# Altium integrated library Analog_Devices_Power_Management_Linear_Regulators.IntLib: 441 symbols (part 18 of 23)
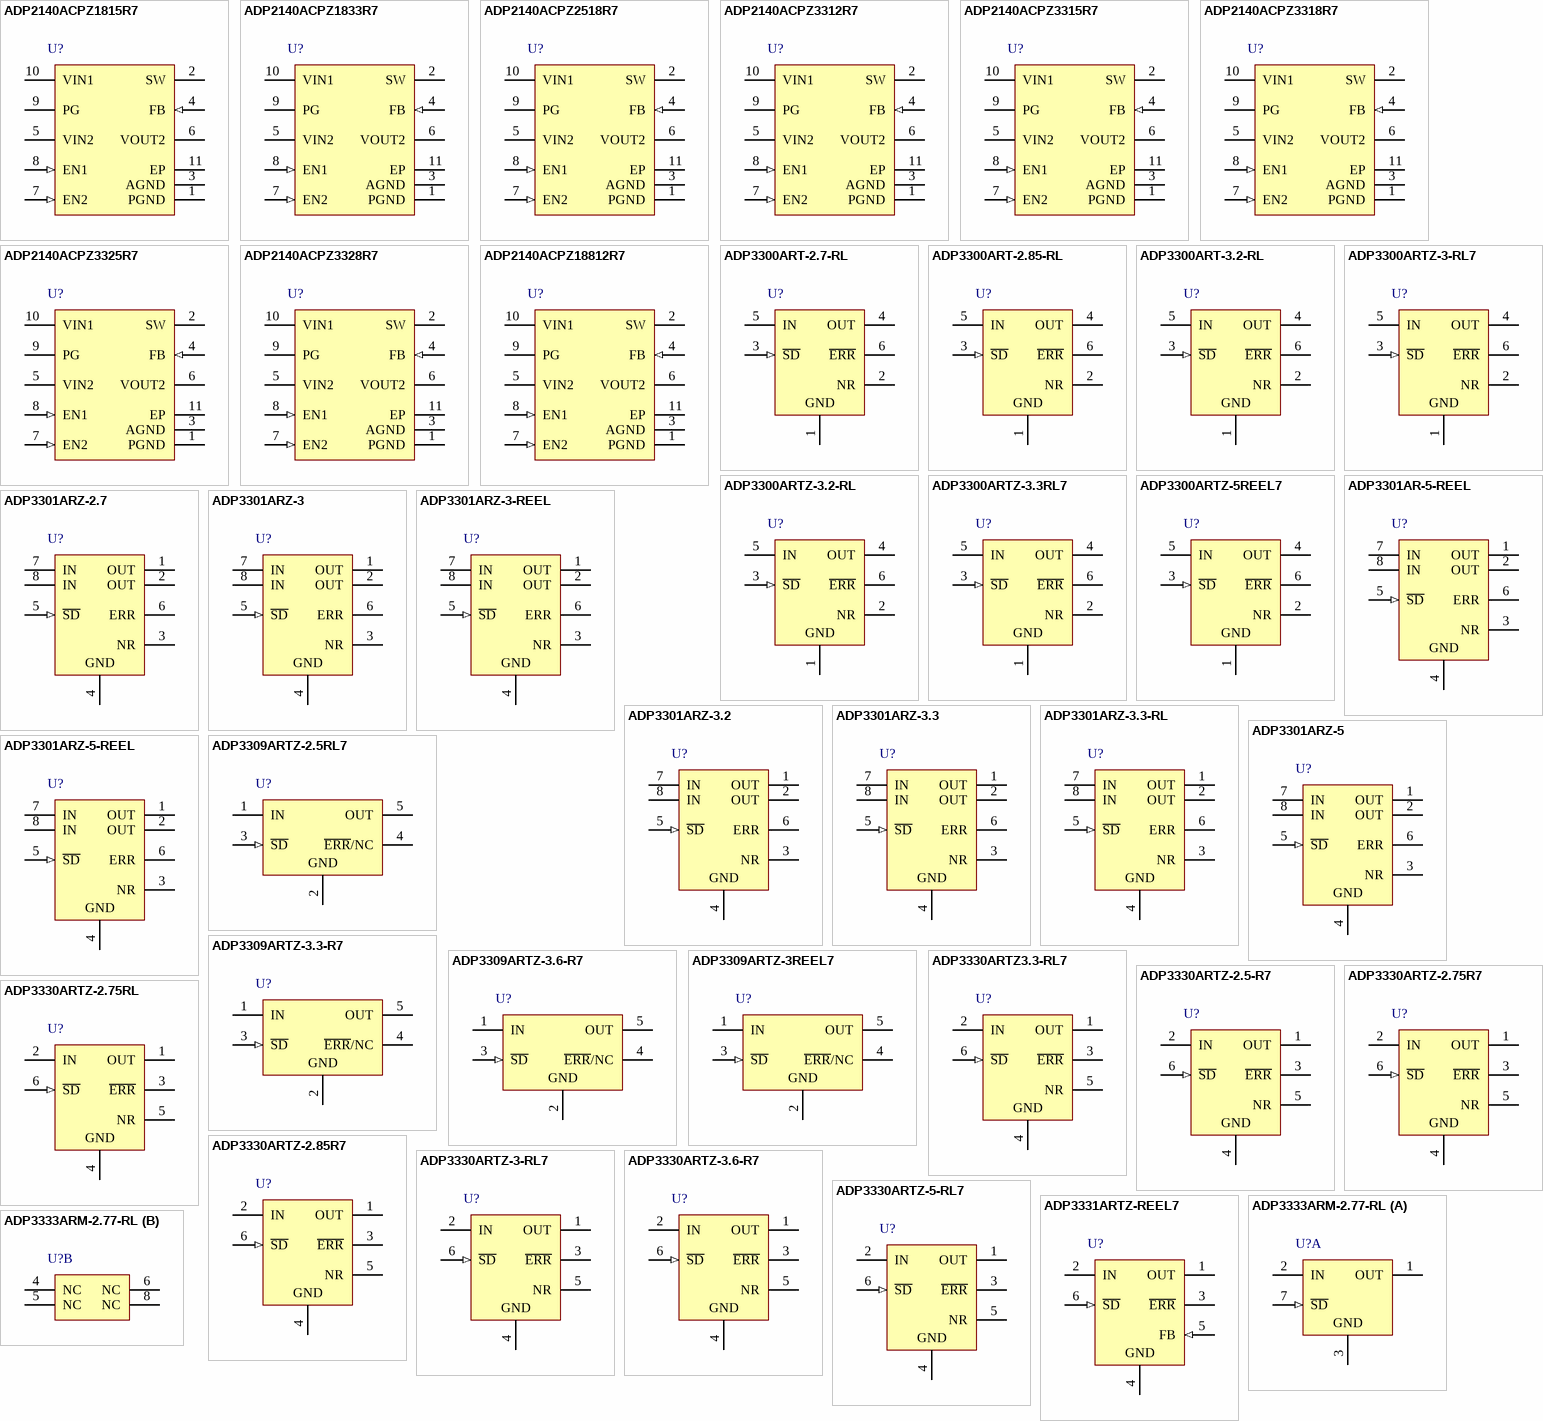
[diagram p28: symbols ADP2140ACPZ1815R7 to ADP3333ARM-2.77-RL]

## ADP3301ARZ-5-REEL
designator U?
High Accuracy anyCAP(TM) 100 mA Low Dropout Linear Regulator, 3 to 12 V Vin, 5 V Vout, Industrial, 8-pin SOIC (R-8), Reel; Manufacturer: Analog Devices; PartNumber: ADP3301ARZ-5-REEL; Iout max: 100mA; Preset Vout Values (V): 5; Supply Current IGND @ Small Load: 180uA; Vin (max) (V): 12; Vin (min) (V): 3; DatasheetVersion: Rev. 0; PackageVersion: 060506-A, 06/2006; PackageReference: R-8; PackageDescription: 8-Pin Standard Small Outline Package, Body 4.9 x 3.9 mm, Pitch 1.27 mm; Supplier 1: Digi-Key; Supplier Part Number 1: ADP3301ARZ-5-REELTR-ND; Supplier 2: Digi-Key; Supplier Part Number 2: ADP3301ARZ-5-REELCT-ND; Supplier 3: Digi-Key; Supplier Part Number 3: ADP3301ARZ-5-REELDKR-ND; Supplier 4: Mouser; Supplier Part Number 4: 584-ADP3301ARZ-5-R; Packing: Reel; Mounting Technology: Surface Mount; Code_JEDEC: MS-012-AA; ComponentLink1Description: Manufacturer URL; ComponentLink1URL: http://www.analog.com/en/index.html; ComponentLink2Description: Datasheet; ComponentLink2URL: http://www.analog.com/static/imported-files/data_sheets/ADP3301.pdf; ComponentLink3Description: Package Specification; ComponentLink3URL: http://www.analog.com/static/imported-files/packages/PKG_PDF/SOIC_Narrow%20(R)/R_8.pdf; ComponentLink4Description: URL Link1; ComponentLink4URL: Product URL:http://www.analog.com/en/ADP3301/productSearch.html
footprint ADI-R-8_N (SOIC, 8-Leads, Body 4.9x3.9mm, Pitch 1.27mm, IPC Medium Density)
footprint ADI-R-8_L (SOIC, 8-Leads, Body 4.9x3.9mm, Pitch 1.27mm, IPC High Density)
footprint ADI-R-8_M (SOIC, 8-Leads, Body 4.9x3.9mm, Pitch 1.27mm, IPC Low Density)
pins: 1 OUT (power) "Output of the Regulator, fixed 2.7, 3.0, 3.2, 3.3 or 5 volts output voltage. Bypass to ground with a 0.47 uF or larger capacitor.", 2 OUT (power) "Output of the Regulator, fixed 2.7, 3.0, 3.2, 3.3 or 5 volts output voltage. Bypass to ground with a 0.47 uF or larger capacitor.", 3 NR "Noise Reduction Pin. Used for further reduction of the output noise. (See text for details.) No connection if not used.", 4 GND (power) "Ground Pin.", 5 ~{SD} (in) "Active Low Shutdown Pin. Connect to ground to disable the regulator output. When shutdown is not used, this pin should be connected to the input pin.", 6 ERR (oc) "Open Collector Output which goes low to indicate that the output is about to go out of regulation.", 7 IN (power) "Regulator Input.", 8 IN (power) "Regulator Input."

## ADP3309ARTZ-2.5RL7
designator U?
anyCAP(R) 100 mA Low Dropout Linear Regulator, 2.8 to 12 V Vin, 2.5 V Vout, Industrial, 5-pin SOT23 (RJ-5), Reel; Manufacturer: Analog Devices; PartNumber: ADP3309ARTZ-2.5RL7; Iout max: 100mA; Preset Vout Values (V): 2.5; Supply Current IGND @ Small Load: 190uA; Vin (max) (V): 12; Vin (min) (V): 2.8; DatasheetVersion: Rev. C; PackageVersion: 121608-A , 12/2008; PackageReference: RJ-5; PackageDescription: 5-Pin Small Outline Transistor Package, Body 2.9 x 1.6 mm, Pitch 0.95 mm; Supplier 1: Mouser; Supplier Part Number 1: 584-ADP3309ARTZ2.5R7; Packing: Reel; Mounting Technology: Surface Mount; Code_JEDEC: MO-178-AA; ComponentLink1Description: Manufacturer URL; ComponentLink1URL: http://www.analog.com/en/index.html; ComponentLink2Description: Datasheet; ComponentLink2URL: http://www.analog.com/static/imported-files/data_sheets/ADP3309.pdf; ComponentLink3Description: Package Specification; ComponentLink3URL: http://www.analog.com/static/imported-files/packages/PKG_PDF/SOT-23(RJ)/RJ_5.pdf; ComponentLink4Description: URL Link1; ComponentLink4URL: Product URL:http://www.analog.com/en/ADP3309/productSearch.html
footprint ADI-RJ-5_N (SOT-23, 5-Leads, Body 2.9x1.6mm, Pitch 0.95mm, IPC Medium Density)
footprint ADI-RJ-5_L (SOT-23, 5-Leads, Body 2.9x1.6mm, Pitch 0.95mm, IPC High Density)
footprint ADI-RJ-5_M (SOT-23, 5-Leads, Body 2.9x1.6mm, Pitch 0.95mm, IPC Low Density)
pins: 1 IN (power) "Regulator Input.", 2 GND (power) "Ground Pin.", 3 ~{SD} (in) "Active Low Shutdown Pin. Connect to ground to disable the regulator output. When shutdown is not used, this pin should be connected to the input pin.", 4 ~{ERR}/NC "Open Collector. Output that goes low to indicate the output is about to go out of regulation. This pin can be left open. (NC = No Connect).", 5 OUT (power) "Output of the Regulator. Fixed 2.5 V, 2.7 V, 2.85 V, 2.9 V, 3.0 V, 3.3 V, or 3.6 V output voltage. Bypass to ground with a 0.47 uF or larger capacitor."

## ADP3309ARTZ-3.3-R7
designator U?
anyCAP(R) 100 mA Low Dropout Linear Regulator, 2.8 to 12 V Vin, 3.3 V Vout, Industrial, 5-pin SOT23 (RJ-5), Reel; Manufacturer: Analog Devices; PartNumber: ADP3309ARTZ-3.3-R7; Iout max: 100mA; Preset Vout Values (V): 3.3; Supply Current IGND @ Small Load: 190uA; Vin (max) (V): 12; Vin (min) (V): 2.8; DatasheetVersion: Rev. C; PackageVersion: 121608-A , 12/2008; PackageReference: RJ-5; PackageDescription: 5-Pin Small Outline Transistor Package, Body 2.9 x 1.6 mm, Pitch 0.95 mm; Supplier 1: Digi-Key; Supplier Part Number 1: ADP3309ARTZ-3.3-R7TR-ND; Supplier 2: Digi-Key; Supplier Part Number 2: ADP3309ARTZ-3.3-R7CT-ND; Supplier 3: Digi-Key; Supplier Part Number 3: ADP3309ARTZ-3.3-R7DKR-ND; Supplier 4: Farnell; Supplier Part Number 4: 2376922; Supplier 5: Newark; Supplier Part Number 5: 12M8147; Supplier 6: Newark; Supplier Part Number 6: 67W2709; Supplier 7: Mouser; Supplier Part Number 7: 584-ADP3309ARTZ3.3R7; Packing: Reel; Mounting Technology: Surface Mount; Code_JEDEC: MO-178-AA; ComponentLink1Description: Manufacturer URL; ComponentLink1URL: http://www.analog.com/en/index.html; ComponentLink2Description: Datasheet; ComponentLink2URL: http://www.analog.com/static/imported-files/data_sheets/ADP3309.pdf; ComponentLink3Description: Package Specification; ComponentLink3URL: http://www.analog.com/static/imported-files/packages/PKG_PDF/SOT-23(RJ)/RJ_5.pdf; ComponentLink4Description: URL Link1; ComponentLink4URL: Product URL:http://www.analog.com/en/ADP3309/productSearch.html
footprint ADI-RJ-5_N (SOT-23, 5-Leads, Body 2.9x1.6mm, Pitch 0.95mm, IPC Medium Density)
footprint ADI-RJ-5_L (SOT-23, 5-Leads, Body 2.9x1.6mm, Pitch 0.95mm, IPC High Density)
footprint ADI-RJ-5_M (SOT-23, 5-Leads, Body 2.9x1.6mm, Pitch 0.95mm, IPC Low Density)
pins: 1 IN (power) "Regulator Input.", 2 GND (power) "Ground Pin.", 3 ~{SD} (in) "Active Low Shutdown Pin. Connect to ground to disable the regulator output. When shutdown is not used, this pin should be connected to the input pin.", 4 ~{ERR}/NC "Open Collector. Output that goes low to indicate the output is about to go out of regulation. This pin can be left open. (NC = No Connect).", 5 OUT (power) "Output of the Regulator. Fixed 2.5 V, 2.7 V, 2.85 V, 2.9 V, 3.0 V, 3.3 V, or 3.6 V output voltage. Bypass to ground with a 0.47 uF or larger capacitor."

## ADP3309ARTZ-3.6-R7
designator U?
anyCAP(R) 100 mA Low Dropout Linear Regulator, 2.8 to 12 V Vin, 3.6 V Vout, Industrial, 5-pin SOT23 (RJ-5), Reel; Manufacturer: Analog Devices; PartNumber: ADP3309ARTZ-3.6-R7; Iout max: 100mA; Preset Vout Values (V): 3.6; Supply Current IGND @ Small Load: 190uA; Vin (max) (V): 12; Vin (min) (V): 2.8; DatasheetVersion: Rev. C; PackageVersion: 121608-A , 12/2008; PackageReference: RJ-5; PackageDescription: 5-Pin Small Outline Transistor Package, Body 2.9 x 1.6 mm, Pitch 0.95 mm; Supplier 1: Mouser; Supplier Part Number 1: 584-ADP3309ARTZ3.6R7; Packing: Reel; Mounting Technology: Surface Mount; Code_JEDEC: MO-178-AA; ComponentLink1Description: Manufacturer URL; ComponentLink1URL: http://www.analog.com/en/index.html; ComponentLink2Description: Datasheet; ComponentLink2URL: http://www.analog.com/static/imported-files/data_sheets/ADP3309.pdf; ComponentLink3Description: Package Specification; ComponentLink3URL: http://www.analog.com/static/imported-files/packages/PKG_PDF/SOT-23(RJ)/RJ_5.pdf; ComponentLink4Description: URL Link1; ComponentLink4URL: Product URL:http://www.analog.com/en/ADP3309/productSearch.html
footprint ADI-RJ-5_N (SOT-23, 5-Leads, Body 2.9x1.6mm, Pitch 0.95mm, IPC Medium Density)
footprint ADI-RJ-5_L (SOT-23, 5-Leads, Body 2.9x1.6mm, Pitch 0.95mm, IPC High Density)
footprint ADI-RJ-5_M (SOT-23, 5-Leads, Body 2.9x1.6mm, Pitch 0.95mm, IPC Low Density)
pins: 1 IN (power) "Regulator Input.", 2 GND (power) "Ground Pin.", 3 ~{SD} (in) "Active Low Shutdown Pin. Connect to ground to disable the regulator output. When shutdown is not used, this pin should be connected to the input pin.", 4 ~{ERR}/NC "Open Collector. Output that goes low to indicate the output is about to go out of regulation. This pin can be left open. (NC = No Connect).", 5 OUT (power) "Output of the Regulator. Fixed 2.5 V, 2.7 V, 2.85 V, 2.9 V, 3.0 V, 3.3 V, or 3.6 V output voltage. Bypass to ground with a 0.47 uF or larger capacitor."

## ADP3309ARTZ-3REEL7
designator U?
anyCAP(R) 100 mA Low Dropout Linear Regulator, 2.8 to 12 V Vin, 3 V Vout, Industrial, 5-pin SOT23 (RJ-5), Reel; Manufacturer: Analog Devices; PartNumber: ADP3309ARTZ-3REEL7; Iout max: 100mA; Preset Vout Values (V): 3; Supply Current IGND @ Small Load: 190uA; Vin (max) (V): 12; Vin (min) (V): 2.8; DatasheetVersion: Rev. C; PackageVersion: 121608-A , 12/2008; PackageReference: RJ-5; PackageDescription: 5-Pin Small Outline Transistor Package, Body 2.9 x 1.6 mm, Pitch 0.95 mm; Supplier 1: Mouser; Supplier Part Number 1: 584-ADP3309ARTZ3R7; Packing: Reel; Mounting Technology: Surface Mount; Code_JEDEC: MO-178-AA; ComponentLink1Description: Manufacturer URL; ComponentLink1URL: http://www.analog.com/en/index.html; ComponentLink2Description: Datasheet; ComponentLink2URL: http://www.analog.com/static/imported-files/data_sheets/ADP3309.pdf; ComponentLink3Description: Package Specification; ComponentLink3URL: http://www.analog.com/static/imported-files/packages/PKG_PDF/SOT-23(RJ)/RJ_5.pdf; ComponentLink4Description: URL Link1; ComponentLink4URL: Product URL:http://www.analog.com/en/ADP3309/productSearch.html
footprint ADI-RJ-5_N (SOT-23, 5-Leads, Body 2.9x1.6mm, Pitch 0.95mm, IPC Medium Density)
footprint ADI-RJ-5_L (SOT-23, 5-Leads, Body 2.9x1.6mm, Pitch 0.95mm, IPC High Density)
footprint ADI-RJ-5_M (SOT-23, 5-Leads, Body 2.9x1.6mm, Pitch 0.95mm, IPC Low Density)
pins: 1 IN (power) "Regulator Input.", 2 GND (power) "Ground Pin.", 3 ~{SD} (in) "Active Low Shutdown Pin. Connect to ground to disable the regulator output. When shutdown is not used, this pin should be connected to the input pin.", 4 ~{ERR}/NC "Open Collector. Output that goes low to indicate the output is about to go out of regulation. This pin can be left open. (NC = No Connect).", 5 OUT (power) "Output of the Regulator. Fixed 2.5 V, 2.7 V, 2.85 V, 2.9 V, 3.0 V, 3.3 V, or 3.6 V output voltage. Bypass to ground with a 0.47 uF or larger capacitor."

## ADP3330ARTZ3.3-RL7
designator U?
High Accuracy Ultralow IQ, 200 mA, anyCAP(TM) Low Dropout Regulator, 2.9 to 12 V Vin, 3.3 V Vout, Industrial, 6-pin SOT23 (RT-6), Reel; Manufacturer: Analog Devices; PartNumber: ADP3330ARTZ3.3-RL7; Iout max: 200mA; Preset Vout Values (V): 3.3; Supply Current IGND @ Small Load: 34uA; Vin (max) (V): 12; Vin (min) (V): 2.9; DatasheetVersion: Rev. A; PackageVersion: REV. A, 11/2006; PackageReference: RT-6; PackageDescription: 6-Pin Plastic Surface Mount SOT-23 Package, Body 2.9 x 1.65 mm, Pitch 0.95 mm; Supplier 1: Digi-Key; Supplier Part Number 1: ADP3330ARTZ3.3-RL7TR-ND; Supplier 2: Digi-Key; Supplier Part Number 2: ADP3330ARTZ3.3-RL7CT-ND; Supplier 3: Digi-Key; Supplier Part Number 3: ADP3330ARTZ3.3-RL7DKR-ND; Supplier 4: Farnell; Supplier Part Number 4: 2376923; Supplier 5: Newark; Supplier Part Number 5: 12M8152; Supplier 6: Newark; Supplier Part Number 6: 28X3290; Supplier 7: Mouser; Supplier Part Number 7: 584-ADP3330ARTZ3.3R7; Packing: Reel; Mounting Technology: Surface Mount; ComponentLink1Description: Manufacturer URL; ComponentLink1URL: http://www.analog.com/en/index.html; ComponentLink2Description: Datasheet; ComponentLink2URL: http://www.analog.com/static/imported-files/data_sheets/ADP3330.pdf; ComponentLink3Description: Package Specification; ComponentLink3URL: http://www.analog.com/static/imported-files/data_sheets/ADG465.pdf; ComponentLink4Description: URL Link1; ComponentLink4URL: Product URL:http://www.analog.com/en/ADP3330/productSearch.html
footprint ADI-RT-6_N (SOT23, 6-Leads, Body 2.9x1.65mm, Pitch 0.95mm, IPC Medium Density)
footprint ADI-RT-6_L (SOT23, 6-Leads, Body 2.9x1.65mm, Pitch 0.95mm, IPC High Density)
footprint ADI-RT-6_M (SOT23, 6-Leads, Body 2.9x1.65mm, Pitch 0.95mm, IPC Low Density)
pins: 1 OUT (power) "Output of the Regulator. Bypass to ground with a 0.47 uF or larger capacitor.", 2 IN (power) "Regulator Input.", 3 ~{ERR} (oc) "Open Collector Output that goes low to indicate that the output is about to go out of regulation.", 4 GND (power) "Ground Pin.", 5 NR "Noise Reduction Pin. Used for further reduction of output noise (see text for detail). No connection if not used.", 6 ~{SD} (in) "Active Low Shutdown Pin. Connect to ground to disable the regulator output. When shutdown is not used, this pin should be connected to the input pin."

## ADP3330ARTZ-2.5-R7
designator U?
High Accuracy Ultralow IQ, 200 mA, anyCAP(TM) Low Dropout Regulator, 2.9 to 12 V Vin, 2.5 V Vout, Industrial, 6-pin SOT23 (RT-6), Reel; Manufacturer: Analog Devices; PartNumber: ADP3330ARTZ-2.5-R7; Iout max: 200mA; Preset Vout Values (V): 2.5; Supply Current IGND @ Small Load: 34uA; Vin (max) (V): 12; Vin (min) (V): 2.9; DatasheetVersion: Rev. A; PackageVersion: REV. A, 11/2006; PackageReference: RT-6; PackageDescription: 6-Pin Plastic Surface Mount SOT-23 Package, Body 2.9 x 1.65 mm, Pitch 0.95 mm; Supplier 1: Digi-Key; Supplier Part Number 1: ADP3330ARTZ-2.5-R7TR-ND; Supplier 2: Digi-Key; Supplier Part Number 2: ADP3330ARTZ-2.5-R7CT-ND; Supplier 3: Digi-Key; Supplier Part Number 3: ADP3330ARTZ-2.5-R7DKR-ND; Supplier 4: Farnell; Supplier Part Number 4: 2074870RL; Supplier 5: Farnell; Supplier Part Number 5: 2074870; Supplier 6: Newark; Supplier Part Number 6: 67W2710; Supplier 7: Newark; Supplier Part Number 7: 12M8148; Supplier 8: Mouser; Supplier Part Number 8: 584-ADP3330ARTZ2.5R7; Packing: Reel; Mounting Technology: Surface Mount; ComponentLink1Description: Manufacturer URL; ComponentLink1URL: http://www.analog.com/en/index.html; ComponentLink2Description: Datasheet; ComponentLink2URL: http://www.analog.com/static/imported-files/data_sheets/ADP3330.pdf; ComponentLink3Description: Package Specification; ComponentLink3URL: http://www.analog.com/static/imported-files/data_sheets/ADG465.pdf; ComponentLink4Description: URL Link1; ComponentLink4URL: Product URL:http://www.analog.com/en/ADP3330/productSearch.html
footprint ADI-RT-6_N (SOT23, 6-Leads, Body 2.9x1.65mm, Pitch 0.95mm, IPC Medium Density)
footprint ADI-RT-6_L (SOT23, 6-Leads, Body 2.9x1.65mm, Pitch 0.95mm, IPC High Density)
footprint ADI-RT-6_M (SOT23, 6-Leads, Body 2.9x1.65mm, Pitch 0.95mm, IPC Low Density)
pins: 1 OUT (power) "Output of the Regulator. Bypass to ground with a 0.47 uF or larger capacitor.", 2 IN (power) "Regulator Input.", 3 ~{ERR} (oc) "Open Collector Output that goes low to indicate that the output is about to go out of regulation.", 4 GND (power) "Ground Pin.", 5 NR "Noise Reduction Pin. Used for further reduction of output noise (see text for detail). No connection if not used.", 6 ~{SD} (in) "Active Low Shutdown Pin. Connect to ground to disable the regulator output. When shutdown is not used, this pin should be connected to the input pin."

## ADP3330ARTZ-2.75R7
designator U?
High Accuracy Ultralow IQ, 200 mA, anyCAP(TM) Low Dropout Regulator, 2.9 to 12 V Vin, 2.75 V Vout, Industrial, 6-pin SOT23 (RT-6), Reel; Manufacturer: Analog Devices; PartNumber: ADP3330ARTZ-2.75R7; Iout max: 200mA; Preset Vout Values (V): 2.75; Supply Current IGND @ Small Load: 34uA; Vin (max) (V): 12; Vin (min) (V): 2.9; DatasheetVersion: Rev. A; PackageVersion: REV. A, 11/2006; PackageReference: RT-6; PackageDescription: 6-Pin Plastic Surface Mount SOT-23 Package, Body 2.9 x 1.65 mm, Pitch 0.95 mm; Supplier 1: Digi-Key; Supplier Part Number 1: ADP3330ARTZ-2.75R7TR-ND; Supplier 2: Digi-Key; Supplier Part Number 2: ADP3330ARTZ-2.75R7CT-ND; Supplier 3: Digi-Key; Supplier Part Number 3: ADP3330ARTZ-2.75R7DKR-ND; Supplier 4: Mouser; Supplier Part Number 4: 584-AP3330ARTZ2.75R7; Packing: Reel; Mounting Technology: Surface Mount; ComponentLink1Description: Manufacturer URL; ComponentLink1URL: http://www.analog.com/en/index.html; ComponentLink2Description: Datasheet; ComponentLink2URL: http://www.analog.com/static/imported-files/data_sheets/ADP3330.pdf; ComponentLink3Description: Package Specification; ComponentLink3URL: http://www.analog.com/static/imported-files/data_sheets/ADG465.pdf; ComponentLink4Description: URL Link1; ComponentLink4URL: Product URL:http://www.analog.com/en/ADP3330/productSearch.html
footprint ADI-RT-6_N (SOT23, 6-Leads, Body 2.9x1.65mm, Pitch 0.95mm, IPC Medium Density)
footprint ADI-RT-6_L (SOT23, 6-Leads, Body 2.9x1.65mm, Pitch 0.95mm, IPC High Density)
footprint ADI-RT-6_M (SOT23, 6-Leads, Body 2.9x1.65mm, Pitch 0.95mm, IPC Low Density)
pins: 1 OUT (power) "Output of the Regulator. Bypass to ground with a 0.47 uF or larger capacitor.", 2 IN (power) "Regulator Input.", 3 ~{ERR} (oc) "Open Collector Output that goes low to indicate that the output is about to go out of regulation.", 4 GND (power) "Ground Pin.", 5 NR "Noise Reduction Pin. Used for further reduction of output noise (see text for detail). No connection if not used.", 6 ~{SD} (in) "Active Low Shutdown Pin. Connect to ground to disable the regulator output. When shutdown is not used, this pin should be connected to the input pin."

## ADP3330ARTZ-2.75RL
designator U?
High Accuracy Ultralow IQ, 200 mA, anyCAP(TM) Low Dropout Regulator, 2.9 to 12 V Vin, 2.75 V Vout, Industrial, 6-pin SOT23 (RT-6), Reel; Manufacturer: Analog Devices; PartNumber: ADP3330ARTZ-2.75RL; Iout max: 200mA; Preset Vout Values (V): 2.75; Supply Current IGND @ Small Load: 34uA; Vin (max) (V): 12; Vin (min) (V): 2.9; DatasheetVersion: Rev. A; PackageVersion: REV. A, 11/2006; PackageReference: RT-6; PackageDescription: 6-Pin Plastic Surface Mount SOT-23 Package, Body 2.9 x 1.65 mm, Pitch 0.95 mm; Supplier 1: Digi-Key; Supplier Part Number 1: ADP3330ARTZ-2.75RLTR-ND; Supplier 2: Digi-Key; Supplier Part Number 2: ADP3330ARTZ-2.75RLCT-ND; Supplier 3: Digi-Key; Supplier Part Number 3: ADP3330ARTZ-2.75RLDKR-ND; Supplier 4: Mouser; Supplier Part Number 4: 584-ADP3330ARTZ2.75R; Packing: Reel; Mounting Technology: Surface Mount; ComponentLink1Description: Manufacturer URL; ComponentLink1URL: http://www.analog.com/en/index.html; ComponentLink2Description: Datasheet; ComponentLink2URL: http://www.analog.com/static/imported-files/data_sheets/ADP3330.pdf; ComponentLink3Description: Package Specification; ComponentLink3URL: http://www.analog.com/static/imported-files/data_sheets/ADG465.pdf; ComponentLink4Description: URL Link1; ComponentLink4URL: Product URL:http://www.analog.com/en/ADP3330/productSearch.html
footprint ADI-RT-6_N (SOT23, 6-Leads, Body 2.9x1.65mm, Pitch 0.95mm, IPC Medium Density)
footprint ADI-RT-6_L (SOT23, 6-Leads, Body 2.9x1.65mm, Pitch 0.95mm, IPC High Density)
footprint ADI-RT-6_M (SOT23, 6-Leads, Body 2.9x1.65mm, Pitch 0.95mm, IPC Low Density)
pins: 1 OUT (power) "Output of the Regulator. Bypass to ground with a 0.47 uF or larger capacitor.", 2 IN (power) "Regulator Input.", 3 ~{ERR} (oc) "Open Collector Output that goes low to indicate that the output is about to go out of regulation.", 4 GND (power) "Ground Pin.", 5 NR "Noise Reduction Pin. Used for further reduction of output noise (see text for detail). No connection if not used.", 6 ~{SD} (in) "Active Low Shutdown Pin. Connect to ground to disable the regulator output. When shutdown is not used, this pin should be connected to the input pin."

## ADP3330ARTZ-2.85R7
designator U?
High Accuracy Ultralow IQ, 200 mA, anyCAP(TM) Low Dropout Regulator, 2.9 to 12 V Vin, 2.85 V Vout, Industrial, 6-pin SOT23 (RT-6), Reel; Manufacturer: Analog Devices; PartNumber: ADP3330ARTZ-2.85R7; Iout max: 200mA; Preset Vout Values (V): 2.85; Supply Current IGND @ Small Load: 34uA; Vin (max) (V): 12; Vin (min) (V): 2.9; DatasheetVersion: Rev. A; PackageVersion: REV. A, 11/2006; PackageReference: RT-6; PackageDescription: 6-Pin Plastic Surface Mount SOT-23 Package, Body 2.9 x 1.65 mm, Pitch 0.95 mm; Supplier 1: Digi-Key; Supplier Part Number 1: ADP3330ARTZ-2.85R7TR-ND; Supplier 2: Digi-Key; Supplier Part Number 2: ADP3330ARTZ-2.85R7CT-ND; Supplier 3: Digi-Key; Supplier Part Number 3: ADP3330ARTZ-2.85R7DKR-ND; Supplier 4: Mouser; Supplier Part Number 4: 584-AP3330ARTZ2.85R7; Packing: Reel; Mounting Technology: Surface Mount; ComponentLink1Description: Manufacturer URL; ComponentLink1URL: http://www.analog.com/en/index.html; ComponentLink2Description: Datasheet; ComponentLink2URL: http://www.analog.com/static/imported-files/data_sheets/ADP3330.pdf; ComponentLink3Description: Package Specification; ComponentLink3URL: http://www.analog.com/static/imported-files/data_sheets/ADG465.pdf; ComponentLink4Description: URL Link1; ComponentLink4URL: Product URL:http://www.analog.com/en/ADP3330/productSearch.html
footprint ADI-RT-6_N (SOT23, 6-Leads, Body 2.9x1.65mm, Pitch 0.95mm, IPC Medium Density)
footprint ADI-RT-6_L (SOT23, 6-Leads, Body 2.9x1.65mm, Pitch 0.95mm, IPC High Density)
footprint ADI-RT-6_M (SOT23, 6-Leads, Body 2.9x1.65mm, Pitch 0.95mm, IPC Low Density)
pins: 1 OUT (power) "Output of the Regulator. Bypass to ground with a 0.47 uF or larger capacitor.", 2 IN (power) "Regulator Input.", 3 ~{ERR} (oc) "Open Collector Output that goes low to indicate that the output is about to go out of regulation.", 4 GND (power) "Ground Pin.", 5 NR "Noise Reduction Pin. Used for further reduction of output noise (see text for detail). No connection if not used.", 6 ~{SD} (in) "Active Low Shutdown Pin. Connect to ground to disable the regulator output. When shutdown is not used, this pin should be connected to the input pin."

## ADP3330ARTZ-3-RL7
designator U?
High Accuracy Ultralow IQ, 200 mA, anyCAP(TM) Low Dropout Regulator, 2.9 to 12 V Vin, 3 V Vout, Industrial, 6-pin SOT23 (RT-6), Reel; Manufacturer: Analog Devices; PartNumber: ADP3330ARTZ-3-RL7; Iout max: 200mA; Preset Vout Values (V): 3; Supply Current IGND @ Small Load: 34uA; Vin (max) (V): 12; Vin (min) (V): 2.9; DatasheetVersion: Rev. A; PackageVersion: REV. A, 11/2006; PackageReference: RT-6; PackageDescription: 6-Pin Plastic Surface Mount SOT-23 Package, Body 2.9 x 1.65 mm, Pitch 0.95 mm; Supplier 1: Digi-Key; Supplier Part Number 1: ADP3330ARTZ-3-RL7TR-ND; Supplier 2: Digi-Key; Supplier Part Number 2: ADP3330ARTZ-3-RL7CT-ND; Supplier 3: Digi-Key; Supplier Part Number 3: ADP3330ARTZ-3-RL7DKR-ND; Supplier 4: Farnell; Supplier Part Number 4: 2376924; Supplier 5: Newark; Supplier Part Number 5: 23X6028; Supplier 6: Newark; Supplier Part Number 6: 59K2591; Supplier 7: Mouser; Supplier Part Number 7: 584-ADP3330ARTZ-3-R7; Packing: Reel; Mounting Technology: Surface Mount; ComponentLink1Description: Manufacturer URL; ComponentLink1URL: http://www.analog.com/en/index.html; ComponentLink2Description: Datasheet; ComponentLink2URL: http://www.analog.com/static/imported-files/data_sheets/ADP3330.pdf; ComponentLink3Description: Package Specification; ComponentLink3URL: http://www.analog.com/static/imported-files/data_sheets/ADG465.pdf; ComponentLink4Description: URL Link1; ComponentLink4URL: Product URL:http://www.analog.com/en/ADP3330/productSearch.html
footprint ADI-RT-6_N (SOT23, 6-Leads, Body 2.9x1.65mm, Pitch 0.95mm, IPC Medium Density)
footprint ADI-RT-6_L (SOT23, 6-Leads, Body 2.9x1.65mm, Pitch 0.95mm, IPC High Density)
footprint ADI-RT-6_M (SOT23, 6-Leads, Body 2.9x1.65mm, Pitch 0.95mm, IPC Low Density)
pins: 1 OUT (power) "Output of the Regulator. Bypass to ground with a 0.47 uF or larger capacitor.", 2 IN (power) "Regulator Input.", 3 ~{ERR} (oc) "Open Collector Output that goes low to indicate that the output is about to go out of regulation.", 4 GND (power) "Ground Pin.", 5 NR "Noise Reduction Pin. Used for further reduction of output noise (see text for detail). No connection if not used.", 6 ~{SD} (in) "Active Low Shutdown Pin. Connect to ground to disable the regulator output. When shutdown is not used, this pin should be connected to the input pin."

## ADP3330ARTZ-3.6-R7
designator U?
High Accuracy Ultralow IQ, 200 mA, anyCAP(TM) Low Dropout Regulator, 2.9 to 12 V Vin, 3.6 V Vout, Industrial, 6-pin SOT23 (RT-6), Reel; Manufacturer: Analog Devices; PartNumber: ADP3330ARTZ-3.6-R7; Iout max: 200mA; Preset Vout Values (V): 3.6; Supply Current IGND @ Small Load: 34uA; Vin (max) (V): 12; Vin (min) (V): 2.9; DatasheetVersion: Rev. A; PackageVersion: REV. A, 11/2006; PackageReference: RT-6; PackageDescription: 6-Pin Plastic Surface Mount SOT-23 Package, Body 2.9 x 1.65 mm, Pitch 0.95 mm; Supplier 1: Digi-Key; Supplier Part Number 1: ADP3330ARTZ-3.6-R7TR-ND; Supplier 2: Digi-Key; Supplier Part Number 2: ADP3330ARTZ-3.6-R7CT-ND; Supplier 3: Digi-Key; Supplier Part Number 3: ADP3330ARTZ-3.6-R7DKR-ND; Supplier 4: Newark; Supplier Part Number 4: 12M8151; Supplier 5: Mouser; Supplier Part Number 5: 584-ADP3330ARTZ3.6R7; Packing: Reel; Mounting Technology: Surface Mount; ComponentLink1Description: Manufacturer URL; ComponentLink1URL: http://www.analog.com/en/index.html; ComponentLink2Description: Datasheet; ComponentLink2URL: http://www.analog.com/static/imported-files/data_sheets/ADP3330.pdf; ComponentLink3Description: Package Specification; ComponentLink3URL: http://www.analog.com/static/imported-files/data_sheets/ADG465.pdf; ComponentLink4Description: URL Link1; ComponentLink4URL: Product URL:http://www.analog.com/en/ADP3330/productSearch.html
footprint ADI-RT-6_N (SOT23, 6-Leads, Body 2.9x1.65mm, Pitch 0.95mm, IPC Medium Density)
footprint ADI-RT-6_L (SOT23, 6-Leads, Body 2.9x1.65mm, Pitch 0.95mm, IPC High Density)
footprint ADI-RT-6_M (SOT23, 6-Leads, Body 2.9x1.65mm, Pitch 0.95mm, IPC Low Density)
pins: 1 OUT (power) "Output of the Regulator. Bypass to ground with a 0.47 uF or larger capacitor.", 2 IN (power) "Regulator Input.", 3 ~{ERR} (oc) "Open Collector Output that goes low to indicate that the output is about to go out of regulation.", 4 GND (power) "Ground Pin.", 5 NR "Noise Reduction Pin. Used for further reduction of output noise (see text for detail). No connection if not used.", 6 ~{SD} (in) "Active Low Shutdown Pin. Connect to ground to disable the regulator output. When shutdown is not used, this pin should be connected to the input pin."

## ADP3330ARTZ-5-RL7
designator U?
High Accuracy Ultralow IQ, 200 mA, anyCAP(TM) Low Dropout Regulator, 2.9 to 12 V Vin, 5 V Vout, Industrial, 6-pin SOT23 (RT-6), Reel; Manufacturer: Analog Devices; PartNumber: ADP3330ARTZ-5-RL7; Iout max: 200mA; Preset Vout Values (V): 5; Supply Current IGND @ Small Load: 34uA; Vin (max) (V): 12; Vin (min) (V): 2.9; DatasheetVersion: Rev. A; PackageVersion: REV. A, 11/2006; PackageReference: RT-6; PackageDescription: 6-Pin Plastic Surface Mount SOT-23 Package, Body 2.9 x 1.65 mm, Pitch 0.95 mm; Supplier 1: Digi-Key; Supplier Part Number 1: ADP3330ARTZ-5-RL7TR-ND; Supplier 2: Digi-Key; Supplier Part Number 2: ADP3330ARTZ-5-RL7CT-ND; Supplier 3: Digi-Key; Supplier Part Number 3: ADP3330ARTZ-5-RL7DKR-ND; Supplier 4: Farnell; Supplier Part Number 4: 2376925; Supplier 5: Newark; Supplier Part Number 5: 23X6029; Supplier 6: Newark; Supplier Part Number 6: 59K2592; Supplier 7: Mouser; Supplier Part Number 7: 584-ADP3330ARTZ-5-R7; Packing: Reel; Mounting Technology: Surface Mount; ComponentLink1Description: Manufacturer URL; ComponentLink1URL: http://www.analog.com/en/index.html; ComponentLink2Description: Datasheet; ComponentLink2URL: http://www.analog.com/static/imported-files/data_sheets/ADP3330.pdf; ComponentLink3Description: Package Specification; ComponentLink3URL: http://www.analog.com/static/imported-files/data_sheets/ADG465.pdf; ComponentLink4Description: URL Link1; ComponentLink4URL: Product URL:http://www.analog.com/en/ADP3330/productSearch.html
footprint ADI-RT-6_N (SOT23, 6-Leads, Body 2.9x1.65mm, Pitch 0.95mm, IPC Medium Density)
footprint ADI-RT-6_L (SOT23, 6-Leads, Body 2.9x1.65mm, Pitch 0.95mm, IPC High Density)
footprint ADI-RT-6_M (SOT23, 6-Leads, Body 2.9x1.65mm, Pitch 0.95mm, IPC Low Density)
pins: 1 OUT (power) "Output of the Regulator. Bypass to ground with a 0.47 uF or larger capacitor.", 2 IN (power) "Regulator Input.", 3 ~{ERR} (oc) "Open Collector Output that goes low to indicate that the output is about to go out of regulation.", 4 GND (power) "Ground Pin.", 5 NR "Noise Reduction Pin. Used for further reduction of output noise (see text for detail). No connection if not used.", 6 ~{SD} (in) "Active Low Shutdown Pin. Connect to ground to disable the regulator output. When shutdown is not used, this pin should be connected to the input pin."

## ADP3331ARTZ-REEL7
designator U?
anyCAP(R) 200 mA Low Dropout Regulator, 2.6 to 12 V Vin, 1.5 to 11.75 V Vout, Industrial, 6-pin SOT23 (RT-6), Reel; Manufacturer: Analog Devices; PartNumber: ADP3331ARTZ-REEL7; Iout max: 200mA; Supply Current IGND @ Small Load: 34uA; Vin (max) (V): 12; Vin (min) (V): 2.6; Vout Adjustable Range: 1.5V to 11.75V; DatasheetVersion: Rev. A; PackageVersion: REV. A, 11/2006; PackageReference: RT-6; PackageDescription: 6-Pin Plastic Surface Mount SOT-23 Package, Body 2.9 x 1.65 mm, Pitch 0.95 mm; Supplier 1: Digi-Key; Supplier Part Number 1: ADP3331ARTZ-REEL7TR-ND; Supplier 2: Digi-Key; Supplier Part Number 2: ADP3331ARTZ-REEL7CT-ND; Supplier 3: Digi-Key; Supplier Part Number 3: ADP3331ARTZ-REEL7DKR-ND; Supplier 4: Farnell; Supplier Part Number 4: 1661068RL; Supplier 5: Farnell; Supplier Part Number 5: 1661068; Supplier 6: Newark; Supplier Part Number 6: 19M8717; Supplier 7: Newark; Supplier Part Number 7: 59K2593; Supplier 8: Mouser; Supplier Part Number 8: 584-ADP3331ARTZ-R7; Packing: Reel; Mounting Technology: Surface Mount; ComponentLink1Description: Manufacturer URL; ComponentLink1URL: http://www.analog.com/en/index.html; ComponentLink2Description: Datasheet; ComponentLink2URL: http://www.analog.com/static/imported-files/data_sheets/ADP3331.pdf; ComponentLink3Description: Package Specification; ComponentLink3URL: http://www.analog.com/static/imported-files/data_sheets/ADG465.pdf; ComponentLink4Description: URL Link1; ComponentLink4URL: Product URL:http://www.analog.com/en/ADP3331/productSearch.html
footprint ADI-RT-6_N (SOT23, 6-Leads, Body 2.9x1.65mm, Pitch 0.95mm, IPC Medium Density)
footprint ADI-RT-6_L (SOT23, 6-Leads, Body 2.9x1.65mm, Pitch 0.95mm, IPC High Density)
footprint ADI-RT-6_M (SOT23, 6-Leads, Body 2.9x1.65mm, Pitch 0.95mm, IPC Low Density)
pins: 1 OUT (power) "Output of the Regulator. Bypass to ground with a 0.47 uF or larger capacitor.", 2 IN (power) "Regulator Input.", 3 ~{ERR} (oc) "Open Collector Output that goes low to indicate that the output is about to go out of regulation.", 4 GND (power) "Ground.", 5 FB (in) "Feedback Input. Connect to an external resistor divider, which sets the output voltage.", 6 ~{SD} (in) "Active Low Shutdown Pin. Connect to ground to disable the regulator output. When shutdown is not used, this pin should be connected to the input pin."

## ADP3333ARM-2.77-RL
designator U?
High Accuracy Ultralow IQ, 300 mA, anyCAP Low Dropout Regulator, 2.6 to 12 V Vin, 2.77 V Vout, Industrial, 8-pin SOP (RM-8), Reel; Manufacturer: Analog Devices; PartNumber: ADP3333ARM-2.77-RL; Iout max: 300mA; Preset Vout Values (V): 2.77; Supply Current IGND @ Small Load: 70uA; Vin (max) (V): 12; Vin (min) (V): 2.6; DatasheetVersion: Rev. B; PackageVersion: Aug-05; PackageReference: RM-8; PackageDescription: 8-Pin Mini Small Outline Package, Body 3 x 3 mm, Pitch 0.65 mm; Supplier 1: Digi-Key; Supplier Part Number 1: ADP3333ARM-2.77-RLTR-ND; Supplier 2: Digi-Key; Supplier Part Number 2: ADP3333ARM-2.77-RLCT-ND; Supplier 3: Digi-Key; Supplier Part Number 3: ADP3333ARM-2.77-RLDKR-ND; Supplier 4: Mouser; Supplier Part Number 4: 584-ADP3333ARM2.77R; Packing: Reel; Mounting Technology: Surface Mount; Code_JEDEC: MO-187-AA; ComponentLink1Description: Manufacturer URL; ComponentLink1URL: http://www.analog.com/en/index.html; ComponentLink2Description: Datasheet; ComponentLink2URL: http://www.analog.com/static/imported-files/data_sheets/ADP3333.pdf; ComponentLink3Description: Package Specification; ComponentLink3URL: http://www.analog.com/static/imported-files/packages/PKG_PDF/MSOP%28RM%29/RM_8.pdf; ComponentLink4Description: URL Link1; ComponentLink4URL: Product URL:http://www.analog.com/en/ADP3333/productSearch.html
footprint ADI-RM-8_N (SOP, 8-Leads, Body 3x3mm, Pitch 0.65mm, IPC Medium Density)
footprint ADI-RM-8_L (SOP, 8-Leads, Body 3x3mm, Pitch 0.65mm, IPC High Density)
footprint ADI-RM-8_M (SOP, 8-Leads, Body 3x3mm, Pitch 0.65mm, IPC Low Density)
part A pins: 1 OUT (power) "Output of the Regulator. Bypass to ground with a 1.0 uF or larger capacitor.", 2 IN (power) "Input Pin. Bypass to ground with a 1.0 uF or larger capacitor.", 3 GND (power) "Ground Pin.", 7 ~{SD} (in) "Active Low Shutdown Pin. Connect to ground to disable the regulator output. When shutdown is not used, connect this pin to the IN pin."
part B pins: 4 NC "No Connect. Best thermal performance is achieved when the NC pins are connected to the GND plane.", 5 NC "No Connect. Best thermal performance is achieved when the NC pins are connected to the GND plane.", 6 NC "No Connect. Best thermal performance is achieved when the NC pins are connected to the GND plane.", 8 NC "No Connect. Best thermal performance is achieved when the NC pins are connected to the GND plane."

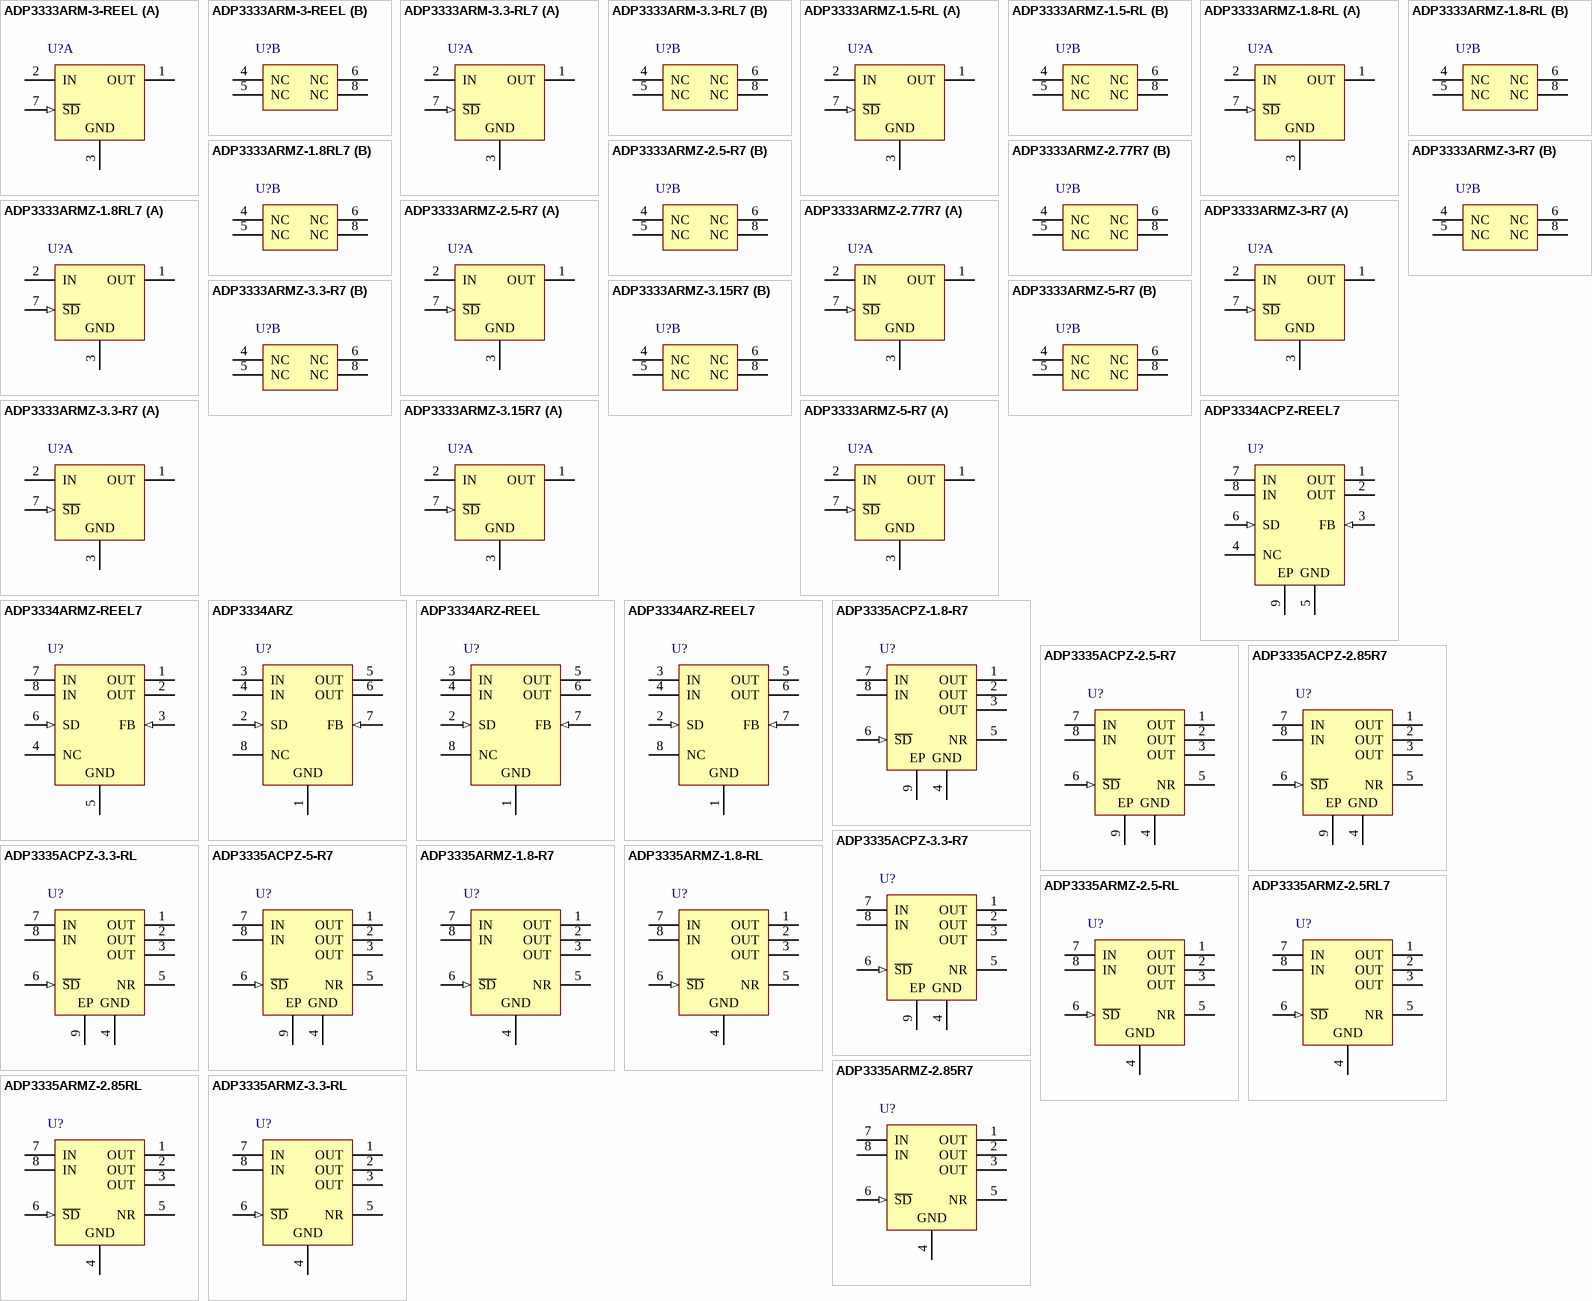
[diagram p9: symbols ADP3333ARM-3-REEL to ADP3335ARMZ-3.3-RL]

## ADP3333ARM-3-REEL
designator U?
High Accuracy Ultralow IQ, 300 mA, anyCAP Low Dropout Regulator, 2.6 to 12 V Vin, 3 V Vout, Industrial, 8-pin SOP (RM-8), Reel; Manufacturer: Analog Devices; PartNumber: ADP3333ARM-3-REEL; Iout max: 300mA; Preset Vout Values (V): 3; Supply Current IGND @ Small Load: 70uA; Vin (max) (V): 12; Vin (min) (V): 2.6; DatasheetVersion: Rev. B; PackageVersion: Aug-05; PackageReference: RM-8; PackageDescription: 8-Pin Mini Small Outline Package, Body 3 x 3 mm, Pitch 0.65 mm; Supplier 1: Digi-Key; Supplier Part Number 1: ADP3333ARM-3-REELTR-ND; Supplier 2: Digi-Key; Supplier Part Number 2: ADP3333ARM-3-REELCT-ND; Supplier 3: Digi-Key; Supplier Part Number 3: ADP3333ARM-3-REELDKR-ND; Supplier 4: Mouser; Supplier Part Number 4: 584-ADP3333ARM-3-R; Packing: Reel; Mounting Technology: Surface Mount; Code_JEDEC: MO-187-AA; ComponentLink1Description: Manufacturer URL; ComponentLink1URL: http://www.analog.com/en/index.html; ComponentLink2Description: Datasheet; ComponentLink2URL: http://www.analog.com/static/imported-files/data_sheets/ADP3333.pdf; ComponentLink3Description: Package Specification; ComponentLink3URL: http://www.analog.com/static/imported-files/packages/PKG_PDF/MSOP%28RM%29/RM_8.pdf; ComponentLink4Description: URL Link1; ComponentLink4URL: Product URL:http://www.analog.com/en/ADP3333/productSearch.html
footprint ADI-RM-8_N (SOP, 8-Leads, Body 3x3mm, Pitch 0.65mm, IPC Medium Density)
footprint ADI-RM-8_L (SOP, 8-Leads, Body 3x3mm, Pitch 0.65mm, IPC High Density)
footprint ADI-RM-8_M (SOP, 8-Leads, Body 3x3mm, Pitch 0.65mm, IPC Low Density)
part A pins: 1 OUT (power) "Output of the Regulator. Bypass to ground with a 1.0 uF or larger capacitor.", 2 IN (power) "Input Pin. Bypass to ground with a 1.0 uF or larger capacitor.", 3 GND (power) "Ground Pin.", 7 ~{SD} (in) "Active Low Shutdown Pin. Connect to ground to disable the regulator output. When shutdown is not used, connect this pin to the IN pin."
part B pins: 4 NC "No Connect. Best thermal performance is achieved when the NC pins are connected to the GND plane.", 5 NC "No Connect. Best thermal performance is achieved when the NC pins are connected to the GND plane.", 6 NC "No Connect. Best thermal performance is achieved when the NC pins are connected to the GND plane.", 8 NC "No Connect. Best thermal performance is achieved when the NC pins are connected to the GND plane."

## ADP3333ARM-3.3-RL7
designator U?
High Accuracy Ultralow IQ, 300 mA, anyCAP Low Dropout Regulator, 2.6 to 12 V Vin, 3.3 V Vout, Industrial, 8-pin SOP (RM-8), Reel; Manufacturer: Analog Devices; PartNumber: ADP3333ARM-3.3-RL7; Iout max: 300mA; Preset Vout Values (V): 3.3; Supply Current IGND @ Small Load: 70uA; Vin (max) (V): 12; Vin (min) (V): 2.6; DatasheetVersion: Rev. B; PackageVersion: Aug-05; PackageReference: RM-8; PackageDescription: 8-Pin Mini Small Outline Package, Body 3 x 3 mm, Pitch 0.65 mm; Supplier 1: Mouser; Supplier Part Number 1: N/A; Packing: Reel; Mounting Technology: Surface Mount; Code_JEDEC: MO-187-AA; ComponentLink1Description: Manufacturer URL; ComponentLink1URL: http://www.analog.com/en/index.html; ComponentLink2Description: Datasheet; ComponentLink2URL: http://www.analog.com/static/imported-files/data_sheets/ADP3333.pdf; ComponentLink3Description: Package Specification; ComponentLink3URL: http://www.analog.com/static/imported-files/packages/PKG_PDF/MSOP%28RM%29/RM_8.pdf; ComponentLink4Description: URL Link1; ComponentLink4URL: Product URL:http://www.analog.com/en/ADP3333/productSearch.html
footprint ADI-RM-8_N (SOP, 8-Leads, Body 3x3mm, Pitch 0.65mm, IPC Medium Density)
footprint ADI-RM-8_L (SOP, 8-Leads, Body 3x3mm, Pitch 0.65mm, IPC High Density)
footprint ADI-RM-8_M (SOP, 8-Leads, Body 3x3mm, Pitch 0.65mm, IPC Low Density)
part A pins: 1 OUT (power) "Output of the Regulator. Bypass to ground with a 1.0 uF or larger capacitor.", 2 IN (power) "Input Pin. Bypass to ground with a 1.0 uF or larger capacitor.", 3 GND (power) "Ground Pin.", 7 ~{SD} (in) "Active Low Shutdown Pin. Connect to ground to disable the regulator output. When shutdown is not used, connect this pin to the IN pin."
part B pins: 4 NC "No Connect. Best thermal performance is achieved when the NC pins are connected to the GND plane.", 5 NC "No Connect. Best thermal performance is achieved when the NC pins are connected to the GND plane.", 6 NC "No Connect. Best thermal performance is achieved when the NC pins are connected to the GND plane.", 8 NC "No Connect. Best thermal performance is achieved when the NC pins are connected to the GND plane."

## ADP3333ARMZ-1.5-RL
designator U?
High Accuracy Ultralow IQ, 300 mA, anyCAP Low Dropout Regulator, 2.6 to 12 V Vin, 1.5 V Vout, Industrial, 8-pin SOP (RM-8), Reel; Manufacturer: Analog Devices; PartNumber: ADP3333ARMZ-1.5-RL; Iout max: 300mA; Preset Vout Values (V): 1.5; Supply Current IGND @ Small Load: 70uA; Vin (max) (V): 12; Vin (min) (V): 2.6; DatasheetVersion: Rev. B; PackageVersion: Aug-05; PackageReference: RM-8; PackageDescription: 8-Pin Mini Small Outline Package, Body 3 x 3 mm, Pitch 0.65 mm; Supplier 1: Digi-Key; Supplier Part Number 1: ADP3333ARMZ-1.5-RLTR-ND; Supplier 2: Digi-Key; Supplier Part Number 2: ADP3333ARMZ-1.5-RLCT-ND; Supplier 3: Digi-Key; Supplier Part Number 3: ADP3333ARMZ-1.5-RLDKR-ND; Supplier 4: Mouser; Supplier Part Number 4: 584-ADP3333ARMZ1.5R; Packing: Reel; Mounting Technology: Surface Mount; Code_JEDEC: MO-187-AA; ComponentLink1Description: Manufacturer URL; ComponentLink1URL: http://www.analog.com/en/index.html; ComponentLink2Description: Datasheet; ComponentLink2URL: http://www.analog.com/static/imported-files/data_sheets/ADP3333.pdf; ComponentLink3Description: Package Specification; ComponentLink3URL: http://www.analog.com/static/imported-files/packages/PKG_PDF/MSOP%28RM%29/RM_8.pdf; ComponentLink4Description: URL Link1; ComponentLink4URL: Product URL:http://www.analog.com/en/ADP3333/productSearch.html
footprint ADI-RM-8_N (SOP, 8-Leads, Body 3x3mm, Pitch 0.65mm, IPC Medium Density)
footprint ADI-RM-8_L (SOP, 8-Leads, Body 3x3mm, Pitch 0.65mm, IPC High Density)
footprint ADI-RM-8_M (SOP, 8-Leads, Body 3x3mm, Pitch 0.65mm, IPC Low Density)
part A pins: 1 OUT (power) "Output of the Regulator. Bypass to ground with a 1.0 uF or larger capacitor.", 2 IN (power) "Input Pin. Bypass to ground with a 1.0 uF or larger capacitor.", 3 GND (power) "Ground Pin.", 7 ~{SD} (in) "Active Low Shutdown Pin. Connect to ground to disable the regulator output. When shutdown is not used, connect this pin to the IN pin."
part B pins: 4 NC "No Connect. Best thermal performance is achieved when the NC pins are connected to the GND plane.", 5 NC "No Connect. Best thermal performance is achieved when the NC pins are connected to the GND plane.", 6 NC "No Connect. Best thermal performance is achieved when the NC pins are connected to the GND plane.", 8 NC "No Connect. Best thermal performance is achieved when the NC pins are connected to the GND plane."

## ADP3333ARMZ-1.8-RL
designator U?
High Accuracy Ultralow IQ, 300 mA, anyCAP Low Dropout Regulator, 2.6 to 12 V Vin, 1.8 V Vout, Industrial, 8-pin SOP (RM-8), Reel; Manufacturer: Analog Devices; PartNumber: ADP3333ARMZ-1.8-RL; Iout max: 300mA; Preset Vout Values (V): 1.8; Supply Current IGND @ Small Load: 70uA; Vin (max) (V): 12; Vin (min) (V): 2.6; DatasheetVersion: Rev. B; PackageVersion: Aug-05; PackageReference: RM-8; PackageDescription: 8-Pin Mini Small Outline Package, Body 3 x 3 mm, Pitch 0.65 mm; Supplier 1: Digi-Key; Supplier Part Number 1: ADP3333ARMZ-1.8-RLTR-ND; Supplier 2: Digi-Key; Supplier Part Number 2: ADP3333ARMZ-1.8-RLCT-ND; Supplier 3: Digi-Key; Supplier Part Number 3: ADP3333ARMZ-1.8-RLDKR-ND; Supplier 4: Newark; Supplier Part Number 4: 12M8154; Supplier 5: Mouser; Supplier Part Number 5: 584-ADP3333ARMZ1.8R; Packing: Reel; Mounting Technology: Surface Mount; Code_JEDEC: MO-187-AA; ComponentLink1Description: Manufacturer URL; ComponentLink1URL: http://www.analog.com/en/index.html; ComponentLink2Description: Datasheet; ComponentLink2URL: http://www.analog.com/static/imported-files/data_sheets/ADP3333.pdf; ComponentLink3Description: Package Specification; ComponentLink3URL: http://www.analog.com/static/imported-files/packages/PKG_PDF/MSOP%28RM%29/RM_8.pdf; ComponentLink4Description: URL Link1; ComponentLink4URL: Product URL:http://www.analog.com/en/ADP3333/productSearch.html
footprint ADI-RM-8_N (SOP, 8-Leads, Body 3x3mm, Pitch 0.65mm, IPC Medium Density)
footprint ADI-RM-8_L (SOP, 8-Leads, Body 3x3mm, Pitch 0.65mm, IPC High Density)
footprint ADI-RM-8_M (SOP, 8-Leads, Body 3x3mm, Pitch 0.65mm, IPC Low Density)
part A pins: 1 OUT (power) "Output of the Regulator. Bypass to ground with a 1.0 uF or larger capacitor.", 2 IN (power) "Input Pin. Bypass to ground with a 1.0 uF or larger capacitor.", 3 GND (power) "Ground Pin.", 7 ~{SD} (in) "Active Low Shutdown Pin. Connect to ground to disable the regulator output. When shutdown is not used, connect this pin to the IN pin."
part B pins: 4 NC "No Connect. Best thermal performance is achieved when the NC pins are connected to the GND plane.", 5 NC "No Connect. Best thermal performance is achieved when the NC pins are connected to the GND plane.", 6 NC "No Connect. Best thermal performance is achieved when the NC pins are connected to the GND plane.", 8 NC "No Connect. Best thermal performance is achieved when the NC pins are connected to the GND plane."

## ADP3333ARMZ-1.8RL7
designator U?
High Accuracy Ultralow IQ, 300 mA, anyCAP Low Dropout Regulator, 2.6 to 12 V Vin, 1.8 V Vout, Industrial, 8-pin SOP (RM-8), Reel; Manufacturer: Analog Devices; PartNumber: ADP3333ARMZ-1.8RL7; Iout max: 300mA; Preset Vout Values (V): 1.8; Supply Current IGND @ Small Load: 70uA; Vin (max) (V): 12; Vin (min) (V): 2.6; DatasheetVersion: Rev. B; PackageVersion: Aug-05; PackageReference: RM-8; PackageDescription: 8-Pin Mini Small Outline Package, Body 3 x 3 mm, Pitch 0.65 mm; Supplier 1: Digi-Key; Supplier Part Number 1: ADP3333ARMZ-1.8RL7TR-ND; Supplier 2: Digi-Key; Supplier Part Number 2: ADP3333ARMZ-1.8RL7CT-ND; Supplier 3: Digi-Key; Supplier Part Number 3: ADP3333ARMZ-1.8RL7DKR-ND; Supplier 4: Newark; Supplier Part Number 4: 59K2595; Supplier 5: Mouser; Supplier Part Number 5: 584-ADP3333ARMZ1.8R7; Packing: Reel; Mounting Technology: Surface Mount; Code_JEDEC: MO-187-AA; ComponentLink1Description: Manufacturer URL; ComponentLink1URL: http://www.analog.com/en/index.html; ComponentLink2Description: Datasheet; ComponentLink2URL: http://www.analog.com/static/imported-files/data_sheets/ADP3333.pdf; ComponentLink3Description: Package Specification; ComponentLink3URL: http://www.analog.com/static/imported-files/packages/PKG_PDF/MSOP%28RM%29/RM_8.pdf; ComponentLink4Description: URL Link1; ComponentLink4URL: Product URL:http://www.analog.com/en/ADP3333/productSearch.html
footprint ADI-RM-8_N (SOP, 8-Leads, Body 3x3mm, Pitch 0.65mm, IPC Medium Density)
footprint ADI-RM-8_L (SOP, 8-Leads, Body 3x3mm, Pitch 0.65mm, IPC High Density)
footprint ADI-RM-8_M (SOP, 8-Leads, Body 3x3mm, Pitch 0.65mm, IPC Low Density)
part A pins: 1 OUT (power) "Output of the Regulator. Bypass to ground with a 1.0 uF or larger capacitor.", 2 IN (power) "Input Pin. Bypass to ground with a 1.0 uF or larger capacitor.", 3 GND (power) "Ground Pin.", 7 ~{SD} (in) "Active Low Shutdown Pin. Connect to ground to disable the regulator output. When shutdown is not used, connect this pin to the IN pin."
part B pins: 4 NC "No Connect. Best thermal performance is achieved when the NC pins are connected to the GND plane.", 5 NC "No Connect. Best thermal performance is achieved when the NC pins are connected to the GND plane.", 6 NC "No Connect. Best thermal performance is achieved when the NC pins are connected to the GND plane.", 8 NC "No Connect. Best thermal performance is achieved when the NC pins are connected to the GND plane."

## ADP3333ARMZ-2.5-R7
designator U?
High Accuracy Ultralow IQ, 300 mA, anyCAP Low Dropout Regulator, 2.6 to 12 V Vin, 2.5 V Vout, Industrial, 8-pin SOP (RM-8), Reel; Manufacturer: Analog Devices; PartNumber: ADP3333ARMZ-2.5-R7; Iout max: 300mA; Preset Vout Values (V): 2.5; Supply Current IGND @ Small Load: 70uA; Vin (max) (V): 12; Vin (min) (V): 2.6; DatasheetVersion: Rev. B; PackageVersion: Aug-05; PackageReference: RM-8; PackageDescription: 8-Pin Mini Small Outline Package, Body 3 x 3 mm, Pitch 0.65 mm; Supplier 1: Digi-Key; Supplier Part Number 1: ADP3333ARMZ-2.5-R7TR-ND; Supplier 2: Digi-Key; Supplier Part Number 2: ADP3333ARMZ-2.5-R7CT-ND; Supplier 3: Digi-Key; Supplier Part Number 3: ADP3333ARMZ-2.5-R7DKR-ND; Supplier 4: Farnell; Supplier Part Number 4: 2376929; Supplier 5: Farnell; Supplier Part Number 5: 2312897; Supplier 6: Newark; Supplier Part Number 6: 61M3989; Supplier 7: Newark; Supplier Part Number 7: 67W2711; Supplier 8: Mouser; Supplier Part Number 8: 584-ADP3333ARMZ2.5R7; Packing: Reel; Mounting Technology: Surface Mount; Code_JEDEC: MO-187-AA; ComponentLink1Description: Manufacturer URL; ComponentLink1URL: http://www.analog.com/en/index.html; ComponentLink2Description: Datasheet; ComponentLink2URL: http://www.analog.com/static/imported-files/data_sheets/ADP3333.pdf; ComponentLink3Description: Package Specification; ComponentLink3URL: http://www.analog.com/static/imported-files/packages/PKG_PDF/MSOP%28RM%29/RM_8.pdf; ComponentLink4Description: URL Link1; ComponentLink4URL: Product URL:http://www.analog.com/en/ADP3333/productSearch.html
footprint ADI-RM-8_N (SOP, 8-Leads, Body 3x3mm, Pitch 0.65mm, IPC Medium Density)
footprint ADI-RM-8_L (SOP, 8-Leads, Body 3x3mm, Pitch 0.65mm, IPC High Density)
footprint ADI-RM-8_M (SOP, 8-Leads, Body 3x3mm, Pitch 0.65mm, IPC Low Density)
part A pins: 1 OUT (power) "Output of the Regulator. Bypass to ground with a 1.0 uF or larger capacitor.", 2 IN (power) "Input Pin. Bypass to ground with a 1.0 uF or larger capacitor.", 3 GND (power) "Ground Pin.", 7 ~{SD} (in) "Active Low Shutdown Pin. Connect to ground to disable the regulator output. When shutdown is not used, connect this pin to the IN pin."
part B pins: 4 NC "No Connect. Best thermal performance is achieved when the NC pins are connected to the GND plane.", 5 NC "No Connect. Best thermal performance is achieved when the NC pins are connected to the GND plane.", 6 NC "No Connect. Best thermal performance is achieved when the NC pins are connected to the GND plane.", 8 NC "No Connect. Best thermal performance is achieved when the NC pins are connected to the GND plane."